# EAGLE library part RF_MODULE_IMP002 (library ee_projects)
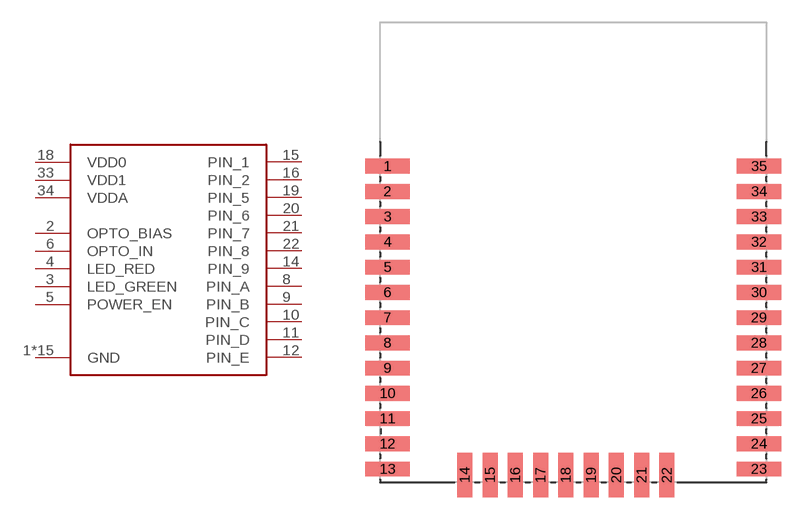
[diagram p7: symbol with the pads of RF_MODULE_IMP002; footprint RF_MODULE_IMP002]

Designator prefix -

## RF_MODULE_IMP002  [RF_MODULE_IMP002]
1  GND
2  OPTO_BIAS
3  LED_GREEN
4  LED_RED
5  POWER_EN
6  OPTO_IN
7  GND
8  PIN_A
9  PIN_B
10  PIN_C
11  PIN_D
12  PIN_E
13  GND
14  PIN_9
15  PIN_1
16  PIN_2
17  GND
18  VDD0
19  PIN_5
20  PIN_6
21  PIN_7
22  PIN_8
23  GND
24  GND
25  GND
26  GND
27  GND
28  GND
29  GND
30  GND
31  GND
32  GND
33  VDD1
34  VDDA
35  GND

## Footprint RF_MODULE_IMP002 (pad centres in mm)
smd 3 x 1: 1 0.5,21.3; 2 0.5,19.6; 3 0.5,17.9; 4 0.5,16.2; 5 0.5,14.5; 6 0.5,12.8; 7 0.5,11.1; 8 0.5,9.4; 9 0.5,7.7; 10 0.5,6; 11 0.5,4.3; 12 0.5,2.6; 13 0.5,0.9; 23 25.5,0.9; 24 25.5,2.6; 25 25.5,4.3; 26 25.5,6; 27 25.5,7.7; 28 25.5,9.4; 29 25.5,11.1; 30 25.5,12.8; 31 25.5,14.5; 32 25.5,16.2; 33 25.5,17.9; 34 25.5,19.6; 35 25.5,21.3
smd 1 x 3: 14 5.7,0.5; 15 7.4,0.5; 16 9.1,0.5; 17 10.8,0.5; 18 12.5,0.5; 19 14.2,0.5; 20 15.9,0.5; 21 17.6,0.5; 22 19.3,0.5